# EAGLE library part 4R16P (library con-harting)
CONNECTOR
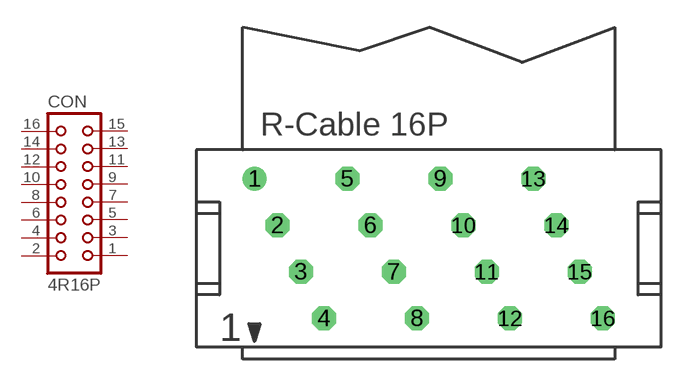
[diagram p20: symbol with the pads of 4R16P; footprint 4R16P]

Designator prefix CON

## 4R16P (OC_FARNELL: unknown; OC_NEWARK: unknown)  [4R16P]
1  1  pas
2  2  pas
3  3  pas
4  4  pas
5  5  pas
6  6  pas
7  7  pas
8  8  pas
9  9  pas
10  10  pas
11  11  pas
12  12  pas
13  13  pas
14  14  pas
15  15  pas
16  16  pas

## Footprint 4R16P (pad centres in mm)
CONNECTOR
drill 0.813 round: 1 -9.525,3.81
drill 0.813 octagon: 2 -8.255,1.27; 3 -6.985,-1.27; 4 -5.715,-3.81; 5 -4.445,3.81; 6 -3.175,1.27; 7 -1.905,-1.27; 8 -0.635,-3.81; 9 0.635,3.81; 10 1.905,1.27; 11 3.175,-1.27; 12 4.445,-3.81; 13 5.715,3.81; 14 6.985,1.27; 15 8.255,-1.27; 16 9.525,-3.81